# Altium footprint library MZBT_PcpLibrary.PcbLib: 144 footprints (part 5 of 9)
Each footprint in its own frame and in the unit in brackets; x right, y up, seen from the top. Pads: shape width x height; smd on the part's side, far side on the other; paste and mask are expansions set on the pad; w line width, h text height; cw(c..) or ccw(c..) is an arc to the next point about the centre after c.
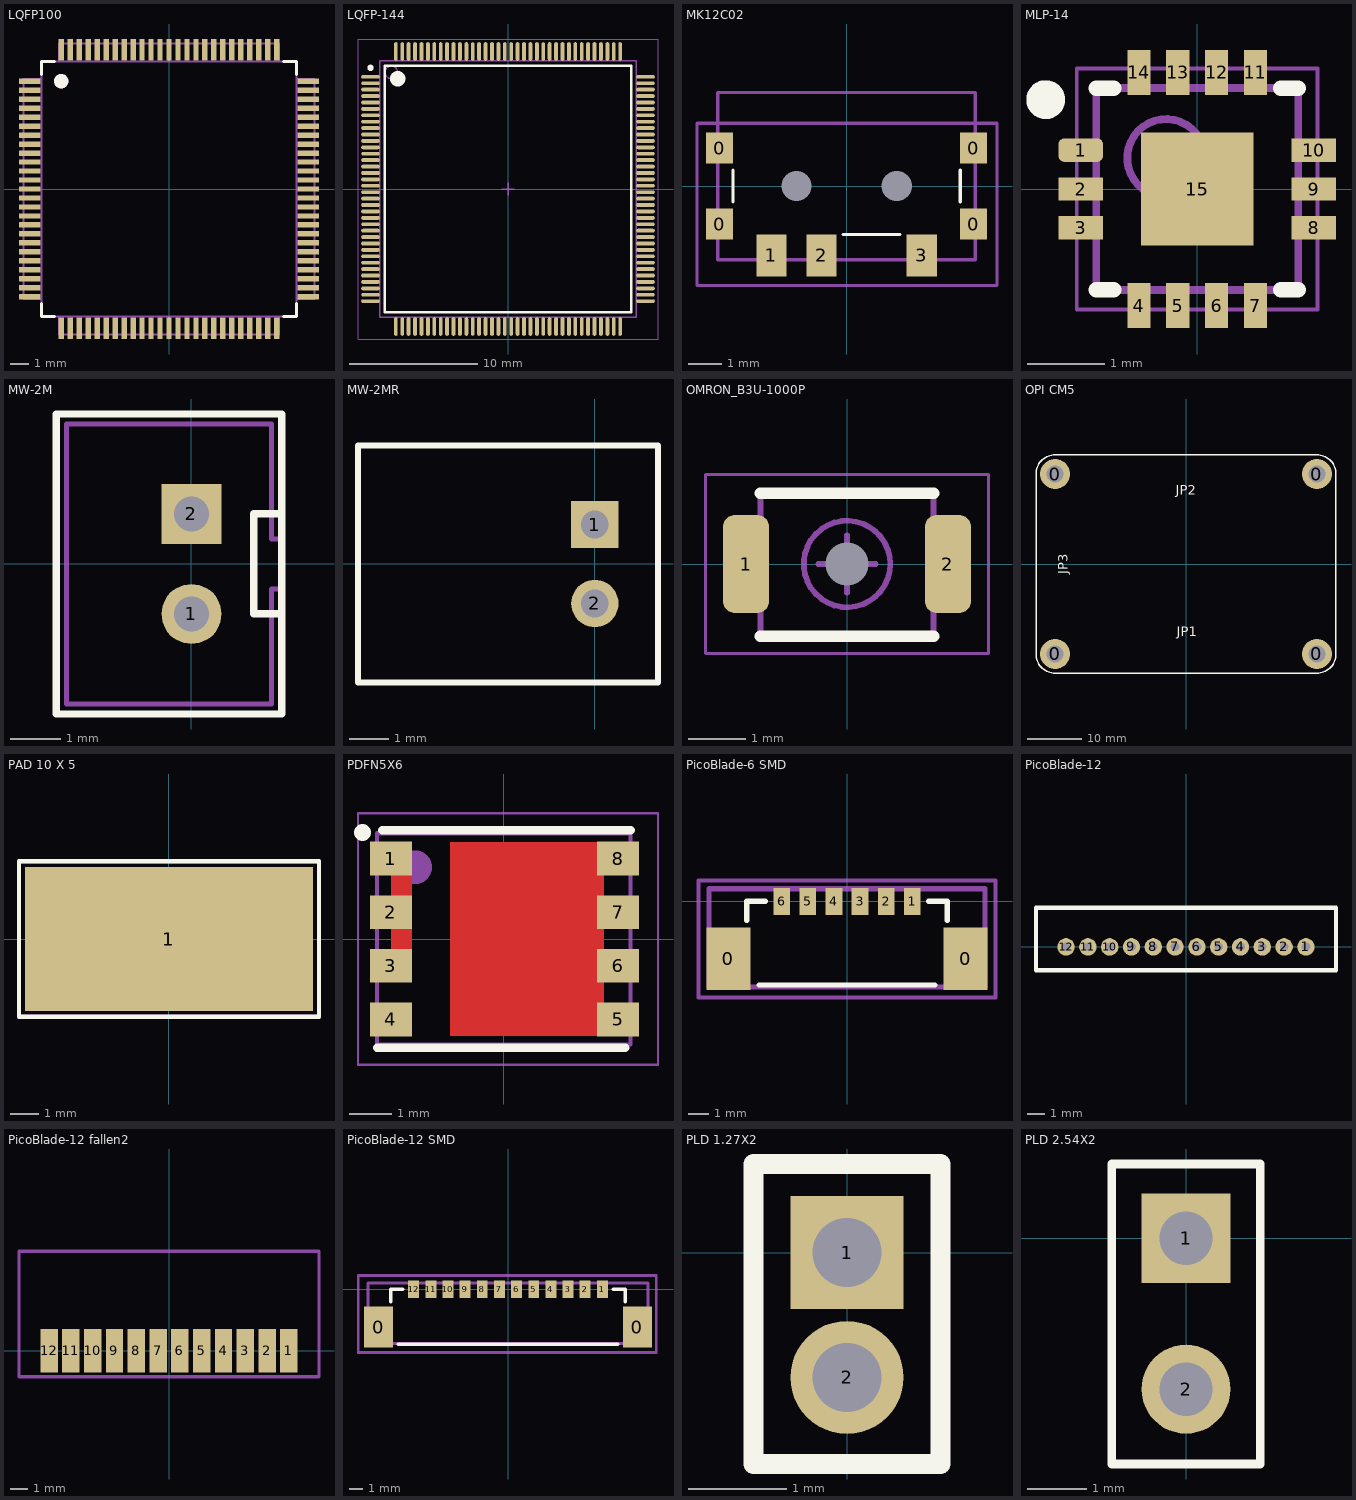
[diagram p4: the footprints below, top view; thin cyan lines are the x and y axes]

## LQFP100 [mm]
height 1.6
pads (100):
  rect 1.2x0.3 smd: 1(-7.75,6) 2(-7.75,5.5) 3(-7.75,5) 4(-7.75,4.5) 5(-7.75,4) 6(-7.75,3.5) 7(-7.75,3) 8(-7.75,2.5) 9(-7.75,2) 10(-7.75,1.5) 11(-7.75,1) 12(-7.75,0.5) 13(-7.75,0) 14(-7.75,-0.5) 15(-7.75,-1) 16(-7.75,-1.5) 17(-7.75,-2) 18(-7.75,-2.5) 19(-7.75,-3) 20(-7.75,-3.5) 21(-7.75,-4) 22(-7.75,-4.5) 23(-7.75,-5) 24(-7.75,-5.5) 25(-7.75,-6) 51(7.75,-6) 52(7.75,-5.5) 53(7.75,-5) 54(7.75,-4.5) 55(7.75,-4) 56(7.75,-3.5) 57(7.75,-3) 58(7.75,-2.5) 59(7.75,-2) 60(7.75,-1.5) 61(7.75,-1) 62(7.75,-0.5) 63(7.75,0) 64(7.75,0.5) 65(7.75,1) 66(7.75,1.5) 67(7.75,2) 68(7.75,2.5) 69(7.75,3) 70(7.75,3.5) 71(7.75,4) 72(7.75,4.5) 73(7.75,5) 74(7.75,5.5) 75(7.75,6)
  rect 0.3x1.2 smd: 26(-6,-7.75) 27(-5.5,-7.75) 28(-5,-7.75) 29(-4.5,-7.75) 30(-4,-7.75) 31(-3.5,-7.75) 32(-3,-7.75) 33(-2.5,-7.75) 34(-2,-7.75) 35(-1.5,-7.75) 36(-1,-7.75) 37(-0.5,-7.75) 38(0,-7.75) 39(0.5,-7.75) 40(1,-7.75) 41(1.5,-7.75) 42(2,-7.75) 43(2.5,-7.75) 44(3,-7.75) 45(3.5,-7.75) 46(4,-7.75) 47(4.5,-7.75) 48(5,-7.75) 49(5.5,-7.75) 50(6,-7.75) 76(6,7.75) 77(5.5,7.75) 78(5,7.75) 79(4.5,7.75) 80(4,7.75) 81(3.5,7.75) 82(3,7.75) 83(2.5,7.75) 84(2,7.75) 85(1.5,7.75) 86(1,7.75) 87(0.5,7.75) 88(0,7.75) 89(-0.5,7.75) 90(-1,7.75) 91(-1.5,7.75) 92(-2,7.75) 93(-2.5,7.75) 94(-3,7.75) 95(-3.5,7.75) 96(-4,7.75) 97(-4.5,7.75) 98(-5,7.75) 99(-5.5,7.75) 100(-6,7.75)
Top Overlay:
  circle w0.4: c-6,6 r0.2
  lines w0.15: -7.1,-6.375 -7.1,-7.1 -6.375,-7.1 ; -7.1,6.375 -7.1,7.1 -6.375,7.1 ; 6.375,-7.1 7.1,-7.1 7.1,-6.375 ; 6.375,7.1 7.1,7.1 7.1,6.375
Top Comment:
  circle w0.4: c-6,6 r0.2
  lines w0.1: -7.1,-6.135 -8.1,-6.135 -8.1,6.135 -7.1,6.135 ; -6.135,-7.1 -6.135,-8.1 6.135,-8.1 6.135,-7.1 ; -6.135,7.1 -6.135,8.1 6.135,8.1 6.135,7.1 ; 7.1,-6.135 8.1,-6.135 8.1,6.135 7.1,6.135 ; -7.1,-7.1 7.1,-7.1 7.1,7.1 -7.1,7.1 -7.1,-7.1
  text ".Comment" at -0.861,-0.374 h0.6
Top Designator (Mech9):
  text ".Designator" at -1.376,0.143 h0.8
3D body "User Library-LQFP100_Grid_0_5.STEP": height 1.6, standoff 0, extent -8.025,-8 7.975,8

## LQFP-144 [mm] "TSQFP, 144-Leads, Body 20,00x20,00mm, Pitch 0,50mm, IPC Medium Density"
height 1.6
pads (144):
  oval 1.45x0.3 smd: 1(-10.725,8.75) 2(-10.725,8.25) 3(-10.725,7.75) 4(-10.725,7.25) 5(-10.725,6.75) 6(-10.725,6.25) 7(-10.725,5.75) 8(-10.725,5.25) 9(-10.725,4.75) 10(-10.725,4.25) 11(-10.725,3.75) 12(-10.725,3.25) 13(-10.725,2.75) 14(-10.725,2.25) 15(-10.725,1.75) 16(-10.725,1.25) 17(-10.725,0.75) 18(-10.725,0.25) 19(-10.725,-0.25) 20(-10.725,-0.75) 21(-10.725,-1.25) 22(-10.725,-1.75) 23(-10.725,-2.25) 24(-10.725,-2.75) 25(-10.725,-3.25) 26(-10.725,-3.75) 27(-10.725,-4.25) 28(-10.725,-4.75) 29(-10.725,-5.25) 30(-10.725,-5.75) 31(-10.725,-6.25) 32(-10.725,-6.75) 33(-10.725,-7.25) 34(-10.725,-7.75) 35(-10.725,-8.25) 36(-10.725,-8.75) 73(10.725,-8.75) 74(10.725,-8.25) 75(10.725,-7.75) 76(10.725,-7.25) 77(10.725,-6.75) 78(10.725,-6.25) 79(10.725,-5.75) 80(10.725,-5.25) 81(10.725,-4.75) 82(10.725,-4.25) 83(10.725,-3.75) 84(10.725,-3.25) 85(10.725,-2.75) 86(10.725,-2.25) 87(10.725,-1.75) 88(10.725,-1.25) 89(10.725,-0.75) 90(10.725,-0.25) 91(10.725,0.25) 92(10.725,0.75) 93(10.725,1.25) 94(10.725,1.75) 95(10.725,2.25) 96(10.725,2.75) 97(10.725,3.25) 98(10.725,3.75) 99(10.725,4.25) 100(10.725,4.75) 101(10.725,5.25) 102(10.725,5.75) 103(10.725,6.25) 104(10.725,6.75) 105(10.725,7.25) 106(10.725,7.75) 107(10.725,8.25) 108(10.725,8.75)
  oval 0.3x1.45 smd: 37(-8.75,-10.725) 38(-8.25,-10.725) 39(-7.75,-10.725) 40(-7.25,-10.725) 41(-6.75,-10.725) 42(-6.25,-10.725) 43(-5.75,-10.725) 44(-5.25,-10.725) 45(-4.75,-10.725) 46(-4.25,-10.725) 47(-3.75,-10.725) 48(-3.25,-10.725) 49(-2.75,-10.725) 50(-2.25,-10.725) 51(-1.75,-10.725) 52(-1.25,-10.725) 53(-0.75,-10.725) 54(-0.25,-10.725) 55(0.25,-10.725) 56(0.75,-10.725) 57(1.25,-10.725) 58(1.75,-10.725) 59(2.25,-10.725) 60(2.75,-10.725) 61(3.25,-10.725) 62(3.75,-10.725) 63(4.25,-10.725) 64(4.75,-10.725) 65(5.25,-10.725) 66(5.75,-10.725) 67(6.25,-10.725) 68(6.75,-10.725) 69(7.25,-10.725) 70(7.75,-10.725) 71(8.25,-10.725) 72(8.75,-10.725) 109(8.75,10.725) 110(8.25,10.725) 111(7.75,10.725) 112(7.25,10.725) 113(6.75,10.725) 114(6.25,10.725) 115(5.75,10.725) 116(5.25,10.725) 117(4.75,10.725) 118(4.25,10.725) 119(3.75,10.725) 120(3.25,10.725) 121(2.75,10.725) 122(2.25,10.725) 123(1.75,10.725) 124(1.25,10.725) 125(0.75,10.725) 126(0.25,10.725) 127(-0.25,10.725) 128(-0.75,10.725) 129(-1.25,10.725) 130(-1.75,10.725) 131(-2.25,10.725) 132(-2.75,10.725) 133(-3.25,10.725) 134(-3.75,10.725) 135(-4.25,10.725) 136(-4.75,10.725) 137(-5.25,10.725) 138(-5.75,10.725) 139(-6.25,10.725) 140(-6.75,10.725) 141(-7.25,10.725) 142(-7.75,10.725) 143(-8.25,10.725) 144(-8.75,10.725)
Top Overlay:
  circle w0.25: c-10.725,9.45 r0.125
  circle w0.6: c-8.6,8.6 r0.3
  lines w0.2: -9.6,-9.6 -9.6,9.6 9.6,9.6 9.6,-9.6 -9.6,-9.6
Top 3D Body (Mech13):
  circle w0.1: c-9.1,9.1 r0.5
  lines w0.1: -10,-10 -10,10 10,10 10,-10 -10,-10
Top Courtyard:
  lines w0.05: -11.7,-11.7 -11.7,11.7 11.7,11.7 11.7,-11.7 -11.7,-11.7
  lines w0.1: -0.5,0 0.5,0 ; 0,-0.5 0,0.5
3D body "TSQFP50P2200X2200X160-144N.step": height 1.6, standoff 0, extent -11,-11 11,11

## MK12C02 [mm] "переключатель SMD"
pads (9):
  rect 0.8x0.93 smd: 0(-3.8,-1.135) 0(-3.8,1.135) 0(3.8,-1.135) 0(3.8,1.135)
  rect 0.9x1.25 smd: 1(-2.25,-2.075) 2(-0.75,-2.075) 3(2.25,-2.075)
  round 0 hole 0.9: 13(1.5,0) 14(-1.5,0)
Top Overlay:
  lines w0.1: -3.4,-0.475 -3.4,0.475 ; -0.1,-1.45 1.6,-1.45 ; 3.4,-0.475 3.4,0.475
Top Comment:
  text ".Comment" at -0.861,-0.374 h0.6
Top Designator (Mech9):
  text ".Designator" at -1.376,0.143 h0.8
Top Component Outline:
  lines w0.102: -3.85,-2.2 3.85,-2.2 3.85,2.8 -3.85,2.8 -3.85,-2.2
Top 3D Body (Mech13):
  lines w0.102: -3.85,-2.2 3.85,-2.2 3.85,2.8 -3.85,2.8 -3.85,-2.2
Top Courtyard:
  lines w0.102: -4.475,-2.975 4.5,-2.975 4.5,1.875 -4.475,1.875 -4.475,-2.975
3D body "User Library-MSS3_slide_switch_v2.step": height 1.4, standoff -0.5, extent -3.85,-2.2 3.85,2.8

## MLP-14 [mm] "PQFN, 14-Leads, Body 2,50x2,50mm, Pitch 0,50mm, Thermal Pad 1,74x1,24mm, IPC Medium Density"
height 0.8
pads (15):
  rrect50% 0.575x0.3 smd: 1(-1.5,0.5)
  rect 0.575x0.3 smd: 2(-1.5,0) 3(-1.5,-0.5) 8(1.5,-0.5) 9(1.5,0) 10(1.5,0.5)
  rect 0.3x0.575 smd: 4(-0.75,-1.5) 5(-0.25,-1.5) 6(0.25,-1.5) 7(0.75,-1.5) 11(0.75,1.5) 12(0.25,1.5) 13(-0.25,1.5) 14(-0.75,1.5)
  rect 1.45x1.45 smd: 15(0,0)
Top Overlay:
  circle w0.25: c-1.95,1.15 r0.125
  lines w0.2: -1.3,-1.3 -1.075,-1.3 ; -1.3,1.3 -1.075,1.3 ; 1.075,-1.3 1.3,-1.3 ; 1.075,1.3 1.3,1.3
Top 3D Body (Mech13):
  circle w0.1: c-0.4,0.4 r0.5
  lines w0.1: -1.3,-1.3 -1.3,1.3 1.3,1.3 1.3,-1.3 -1.3,-1.3
Top Courtyard:
  lines w0.05: -1.55,-1.55 -1.55,1.55 1.55,1.55 1.55,-1.55 -1.55,-1.55
  lines w0.1: -0.5,0 0.5,0 ; 0,-0.5 0,0.5
3D body: height 0.8, standoff 0, extent -1.3,-1.3 1.3,1.3

## MW-2M [mm]
height 6
pads (2):
  round 1.2 hole 0.7: 1(0,-1)
  rect 1.2x1.2 hole 0.7: 2(0,1)
Top Overlay:
  lines w0.15: 1.8,-1 1.25,-1 1.25,1 1.8,1 ; -2.7,-3 -2.7,3 1.8,3 1.8,-3 -2.7,-3
Top Comment:
  text ".Comment" at -2.439,-0.952 h1.52
Top Designator (Mech9):
  text ".Designator" at -2.867,0.272 h1.52
Top Component Outline:
  lines w0.1: 1.79,0.5 1.6,0.5 1.6,2.8 -2.5,2.8 -2.5,-2.8 1.6,-2.8 1.6,-0.5 1.8,-0.5 ; -2.7,-3 1.8,-3 1.8,3 -2.7,3 -2.7,-3
3D body "B2B-PH-K-S.STEP": height 6, standoff -3.4, extent -2.7,-2.95 1.8,2.95

## MW-2MR [mm]
height 4.5
pads (2):
  rect 1.2x1.2 hole 0.7: 1(0,1)
  round 1.2 hole 0.7: 2(0,-1)
Top Overlay:
  lines w0.15: -6,-3 1.6,-3 1.6,3 -6,3 -6,-3
Top Comment:
  text ".Comment" at -4.364,-0.952 h1.52
Top Designator (Mech9):
  text ".Designator" at -4.792,0.272 h1.52
Top Component Outline:
  lines w0.1: -6,-3 -6,3 1.6,3 1.6,-3 -6,-3
3D body "S2B-PH-K-S.STEP": height 4.8, standoff -3.4, extent -6,-2.95 1.6,2.95

## OMRON_B3U-1000P [mm]
height 1.6
pads (3):
  rrect50% 0.8x1.7 smd: 1(-1.75,0) 2(1.75,0)
  round 0 hole 0.75 unplated: ""(0,0)
Top Overlay:
  lines w0.2: -1.5,-1.25 1.5,-1.25 ; -1.5,1.225 1.5,1.225
Top Comment:
  text ".Comment" at -1.826,-3.17 h1
Top Designator (Mech9):
  text ".Designator" at 1.835,2.338 h1.2
Top Component Outline:
  circle w0.1: c0,0 r0.75
  lines w0.1: -1.5,-1.25 1.5,-1.25 1.5,1.25 -1.5,1.25 -1.5,-1.25
Top Courtyard:
  lines w0.05: -2.45,-1.55 -2.45,1.55 2.45,1.55 2.45,-1.55 -2.45,-1.55
  lines w0.1: -0.5,0 0.5,0 ; 0,-0.5 0,0.5
3D body "B3U_1000P[].step": height 1.6, standoff -0.5, extent -2,-1.25 2,1.25

## OPI CM5 [mm] "Orange Pi CM5"
pads (4):
  round 5.5 hole 3.15: 0(-24,-16.5) 0(-24,16.5) 0(24,-16.5) 0(24,16.5)
Top Overlay:
  lines w0.254: -27.5,-16.5 ccw(c-24,-16.5) -24,-20 24,-20 ccw(c24,-16.5) 27.5,-16.5 27.5,16.5 ccw(c24,16.5) 24,20 -24,20 ccw(c-24,16.5) -27.5,16.5 -27.5,-16.5
  text "JP2" at -1.841,12.074 h3
  text "JP1" at -1.72,-13.926 h3
  text "JP3" at -21.074,-1.85 h3
3D body "soldered nut_1,5.stp": height 1.5, standoff -1.5, extent 21.25,13.753 26.75,19.247
3D body "User Library-DF40C-100DP-0_4V(51).step": height 1.4, standoff -0.05, extent -27.09,-11.3 -23.71,11.3
3D body "soldered nut_1,5.stp": height 1.5, standoff -1.5, extent -26.75,13.753 -21.25,19.247
3D body "soldered nut_1,5.stp": height 1.5, standoff -1.5, extent -26.75,-19.247 -21.25,-13.753
3D body "soldered nut_1,5.stp": height 1.5, standoff -1.5, extent 21.25,-19.247 26.75,-13.753
3D body "User Library-DF40C-100DP-0_4V(51).step": height 1.4, standoff -0.05, extent -11.3,15.31 11.3,18.69
3D body "User Library-DF40C-100DP-0_4V(51).step": height 1.4, standoff -0.05, extent -11.3,-18.69 11.3,-15.31

## PAD 10 X 5 [mm]
pads (1):
  rect 10x5 smd: 1(0,0)
Top Overlay:
  lines w0.15: -5.2,-2.7 5.2,-2.7 5.2,2.7 -5.2,2.7 -5.2,-2.7
Top Comment:
  text ".Comment" at -2.189,-0.952 h1.52
Top Designator (Mech9):
  text ".Designator" at -2.617,0.272 h1.52
Top Courtyard:
  lines w0.15: -5.2,-2.7 5.2,-2.7 5.2,2.7 -5.2,2.7 -5.2,-2.7

## PDFN5X6 [mm] "PDFN5X6, 8-Leads, Body 5,00x6,00mm, Pitch 1,27mm"
height 1
pads (8):
  rect 1x0.8 smd: 1(-2.67,1.905) 2(-2.67,0.635) 3(-2.67,-0.635) 4(-2.67,-1.905) 5(2.705,-1.905) 6(2.705,-0.635) 7(2.705,0.635) 8(2.705,1.905)
Top Layer:
  rectangle: -1.275,-2.3 2.375,2.3
  rectangle: -2.67,-0.67 -2.175,1.905
Top Overlay:
  lines w0.2: -3,-2.575 2.875,-2.575 ; -2.875,2.575 3,2.575
  lines w0.4: -3.348,2.519 -3.343,2.52
Top Paste:
  region: 0.64,2.13 -0.11,2.13 -0.11,1.6 0.64,1.6
  region: -0.31,2.13 -1.06,2.13 -1.06,1.6 -0.31,1.6
  region: 1.59,2.13 0.84,2.13 0.84,1.6 1.59,1.6
  region: 2.369,2.13 1.79,2.13 1.79,1.6 2.369,1.6
  rectangle: -1.06,-0.65 -0.31,-0.1
  rectangle: -1.06,-1.4 -0.31,-0.85
  rectangle: -1.06,-2.129 -0.31,-1.6
  region: -0.31,0.65 -1.06,0.65 -1.06,0.1 -0.31,0.1
  region: -0.31,1.4 -1.06,1.4 -1.06,0.85 -0.31,0.85
  rectangle: -0.11,-0.65 0.64,-0.1
  rectangle: -0.11,-1.4 0.64,-0.85
  rectangle: -0.11,-2.129 0.64,-1.6
  region: 0.64,0.65 -0.11,0.65 -0.11,0.1 0.64,0.1
  region: 0.64,1.4 -0.11,1.4 -0.11,0.85 0.64,0.85
  region: 2.369,0.65 1.79,0.65 1.79,0.1 2.369,0.1
  region: 2.369,1.4 1.79,1.4 1.79,0.85 2.369,0.85
  region: 1.59,1.4 0.84,1.4 0.84,0.85 1.59,0.85
  region: 1.59,0.65 0.84,0.65 0.84,0.1 1.59,0.1
  rectangle: 1.79,-0.65 2.369,-0.1
  rectangle: 1.79,-1.4 2.369,-0.85
  rectangle: 1.79,-2.129 2.369,-1.6
  rectangle: 0.84,-2.129 1.59,-1.6
  rectangle: 0.84,-1.4 1.59,-0.85
  rectangle: 0.84,-0.65 1.59,-0.1
  region: 3.272,-0.43 2.626,-0.43 2.615,-0.43 2.594,-0.438 2.578,-0.454 2.57,-0.475 2.57,-0.486 2.57,-0.798 2.57,-0.806 2.577,-0.822 2.588,-0.834 2.604,-0.84 2.612,-0.84 3.264,-0.84 3.275,-0.84 3.296,-0.831 3.311,-0.816 3.32,-0.795 3.32,-0.784 3.32,-0.478 3.32,-0.468 3.313,-0.451 3.299,-0.437 3.282,-0.43
  region: 3.272,0.84 2.626,0.84 2.615,0.84 2.594,0.832 2.578,0.816 2.57,0.795 2.57,0.784 2.57,0.472 2.57,0.464 2.577,0.448 2.588,0.436 2.604,0.43 2.612,0.43 3.264,0.43 3.275,0.43 3.296,0.439 3.311,0.454 3.32,0.475 3.32,0.486 3.32,0.792 3.32,0.802 3.313,0.819 3.299,0.833 3.282,0.84
  region: 3.272,2.11 2.626,2.11 2.615,2.11 2.594,2.102 2.578,2.086 2.57,2.065 2.57,2.054 2.57,1.742 2.57,1.734 2.577,1.718 2.588,1.706 2.604,1.7 2.612,1.7 3.264,1.7 3.275,1.7 3.296,1.709 3.311,1.724 3.32,1.745 3.32,1.756 3.32,2.062 3.32,2.072 3.313,2.089 3.299,2.103 3.282,2.11
  region: 3.272,-1.7 2.626,-1.7 2.615,-1.7 2.594,-1.708 2.578,-1.724 2.57,-1.745 2.57,-1.756 2.57,-2.068 2.57,-2.076 2.577,-2.092 2.588,-2.104 2.604,-2.11 2.612,-2.11 3.264,-2.11 3.275,-2.11 3.296,-2.101 3.311,-2.086 3.32,-2.065 3.32,-2.054 3.32,-1.748 3.32,-1.738 3.313,-1.721 3.299,-1.707 3.282,-1.7
Top Solder:
  rectangle: -1.175,-2.235 2.625,2.235
Top Comment:
  text ".Comment" at -2.065,-3.875 h1.2
Top Designator (Mech9):
  text ".Designator" at -2.927,-0.332 h1.5
Top Component Outline:
  circle w0.4: c-2.1,1.7 r0.2
  lines w0.1: -3,-2.5 -3,2.5 3,2.5 3,-2.5 -3,-2.5
Top Courtyard:
  lines w0.05: -3.45,-2.975 3.65,-2.975 3.65,2.975 -3.45,2.975 -3.45,-2.975
  lines w0.1: -0.5,0 0.5,0 ; 0,-0.5 0,0.5
3D body "User Library-PQFN 5x6.STEP": height 1.2, standoff 0, extent -3.01,-2.5 3.01,2.5

## PicoBlade-6 SMD [mm]
pads (8):
  rect 2.1x3 smd: 0(-5.675,-2.75) 0(5.675,-2.75)
  rect 0.8x1.3 smd: 1(3.125,0) 2(1.875,0) 3(0.625,0) 4(-0.625,0) 5(-1.875,0) 6(-3.125,0)
Top Overlay:
  lines w0.254: -4.8,-0.9 -4.8,0 -3.9,0 ; -4.2,-4 4.2,-4 ; 3.9,0 4.8,0 4.8,-0.9
Top Comment:
  text ".Comment" at -1.433,-2.923 h1
Top Designator (Mech9):
  text ".Designator" at -2.059,-2.086 h1.2
Top Component Outline:
  lines w0.254: -6.6,-4.1 6.6,-4.1 6.6,0.6 -6.6,0.6 -6.6,-4.1
Top Courtyard:
  lines w0.2: -7.1,-4.6 7.1,-4.6 7.1,1 -7.1,1 -7.1,-4.6
3D body "53398-0671.stp": height 4.72, standoff -0.02, extent -6.325,-3.85 6.325,0.35

## PicoBlade-12 [mm]
pads (12):
  round 1 hole 0.5: 1(6.875,0) 2(5.625,0) 3(4.375,0) 4(3.125,0) 5(1.875,0) 6(0.625,0) 7(-0.625,0) 8(-1.875,0) 9(-3.125,0) 10(-4.375,0) 11(-5.625,0) 12(-6.875,0)
Top Overlay:
  lines w0.254: -8.6,-1.35 8.6,-1.35 8.6,2.25 -8.6,2.25 -8.6,-1.35
Top Comment:
  text ".Comment" at -1.433,-0.623 h1
Top Designator (Mech9):
  text ".Designator" at -2.059,0.214 h1.2
Top Courtyard:
  lines w0.2: -8.6,-1.35 8.6,-1.35 8.6,2.25 -8.6,2.25 -8.6,-1.35
3D body "53047-1210.stp": height 4.18, standoff -2.32, extent -8.375,-1.15 8.375,2.05

## PicoBlade-12 fallen2 [mm]
pads (12):
  rect 1x2.5 smd: 1(6.875,0) 2(5.625,0) 3(4.375,0) 4(3.125,0) 5(1.875,0) 6(0.625,0) 7(-0.625,0) 8(-1.875,0) 9(-3.125,0) 10(-4.375,0) 11(-5.625,0) 12(-6.875,0)
Top Comment:
  text ".Comment" at -1.433,-0.623 h1
Top Designator (Mech9):
  text ".Designator" at -2.059,0.214 h1.2
Top Courtyard:
  lines w0.2: -8.6,-1.5 8.6,-1.5 8.6,5.7 -8.6,5.7 -8.6,-1.5
3D body "53047-1210.stp": height 2.25, standoff -0.95, extent -8.375,-1.025 8.375,5.475

## PicoBlade-12 SMD [mm]
pads (14):
  rect 2.1x3 smd: 0(-9.425,-2.75) 0(9.425,-2.75)
  rect 0.8x1.3 smd: 1(6.875,0) 2(5.625,0) 3(4.375,0) 4(3.125,0) 5(1.875,0) 6(0.625,0) 7(-0.625,0) 8(-1.875,0) 9(-3.125,0) 10(-4.375,0) 11(-5.625,0) 12(-6.875,0)
Top Overlay:
  lines w0.254: -8.55,-0.9 -8.55,0 -7.65,0 ; -8,-4 8,-4 ; 7.65,0 8.55,0 8.55,-0.9
Top Comment:
  text ".Comment" at -1.433,-2.923 h1
Top Designator (Mech9):
  text ".Designator" at -2.059,-2.086 h1.2
Top Component Outline:
  lines w0.2: -10.2,-3.95 -10.2,0.45 10.2,0.45 10.2,-3.95 -10.2,-3.95
Top Courtyard:
  lines w0.2: -10.9,-4.6 -10.9,1 10.8,1 10.8,-4.6 -10.9,-4.6
3D body "53398-1271.stp": height 4.72, standoff -0.02, extent -10.075,-3.85 10.075,0.35

## PLD 1.27X2 [mm]
pads (2):
  rect 1.15x1.15 hole 0.7: 1(0,0)
  round 1.15 hole 0.7: 2(0,-1.27)
Top Overlay:
  lines w0.2: -0.95,-2.15 0.95,-2.15 0.95,0.9 -0.95,0.9 -0.95,-2.15

## PLD 2.54X2 [mm]
pads (2):
  rect 1.5x1.5 hole 0.9: 1(0,0)
  round 1.5 hole 0.9: 2(0,-2.54)
Top Overlay:
  lines w0.15: -1.25,-3.8 1.25,-3.8 1.25,1.25 -1.25,1.25 -1.25,-3.8